# Altium footprint library USB_COM_V2.0.PcbLib: 11 footprints
Each footprint in its own frame and in the unit in brackets; x right, y up, seen from the top. Pads: shape width x height; smd on the part's side, far side on the other; paste and mask are expansions set on the pad; w line width, h text height; cw(c..) or ccw(c..) is an arc to the next point about the centre after c.
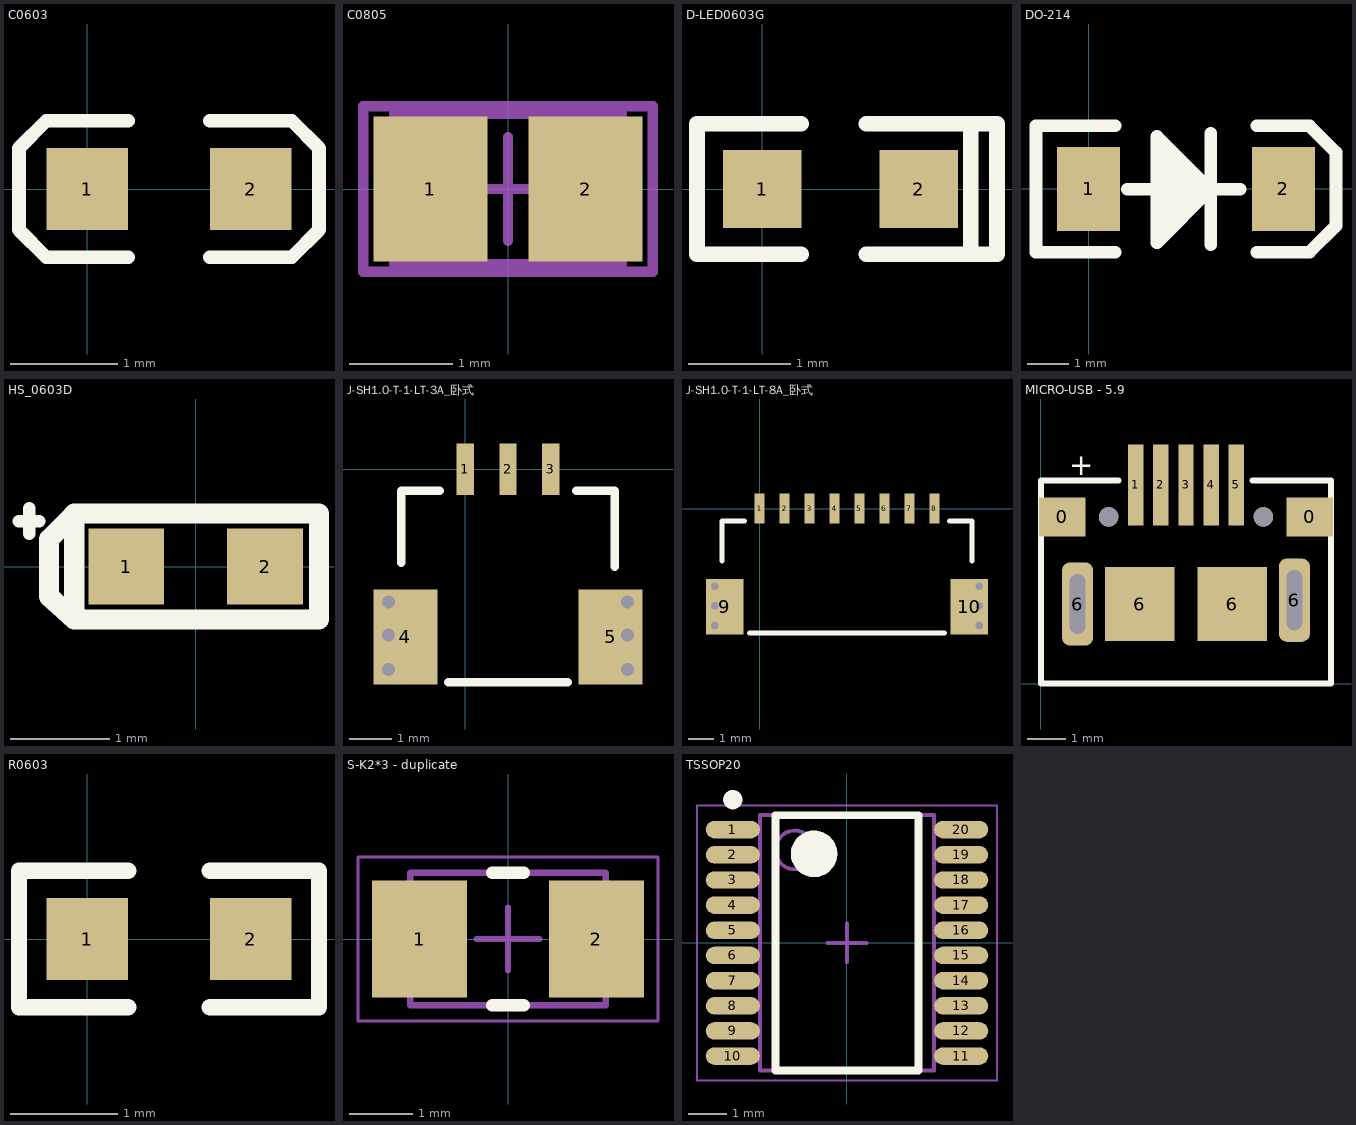
[diagram p0: the footprints below, top view; thin cyan lines are the x and y axes]

## C0603 [mil]
height 12
pads (2):
  rect 30x30 smd: 1(0,0) 2(60,0)
Top Overlay:
  lines w5: 15,-25 -15,-25 -25,-15 -25,15 -15,25 15,25 ; 45,-25 75,-25 85,-15 85,15 75,25 45,25
3D body "C0603.STEP": height 11.89, standoff 0, extent -1.5,-15.5 61.5,16

## C0805 [mm] "Chip Capacitor, Body 2.0x1.3mm, IPC High Density"
height 1.4
pads (2):
  rect 1.1x1.4 smd: 1(-0.75,0) 2(0.75,0)
Mechanical 13:
  lines w0.1: -1.1,-0.725 1.1,-0.725 1.1,0.725 -1.1,0.725 -1.1,-0.725
Mechanical 15:
  lines w0.1: -0.5,0 0.5,0 ; 0,-0.5 0,0.5 ; -1.4,-0.8 1.4,-0.8 1.4,0.8 -1.4,0.8 -1.4,-0.8
3D body: height 1.4, standoff 0, extent -1.1,-0.725 1.1,0.725

## D-LED0603G [mil]
height 39.37
pads (2):
  rect 30x30 smd: 1(0,0) 2(60,0)
Top Overlay:
  lines w6: 15,-25 -25,-25 -25,25 15,25 ; 40,-25 90,-25 90,25 40,25 ; 80,-25 80,25
3D body "LED_0603_GREEN.STEP": height 23.62, standoff 0, extent -1.89,-16.5 61.89,15

## DO-214 [mil]
height 267.72
pads (2):
  rect 60x80 smd: 1(0,0) 2(185,0)
Top Overlay:
  region: 64.92,-25.05 91,-25.05 91,22.87 64.92,22.87
  lines w12: 25,-60 -50,-60 -50,60 25,60 ; 36.92,-0.13 143.92,-0.13 ; 64.92,33.87 100.29,-1.51 66.66,-35.13 ; 115.92,-53.13 115.92,52.87 ; 160,-60 209.92,-60 235,-34.92 235,34.87 209.87,60 160,60 ; 64.92,-51.13 115.92,-0.13 115.92,-1.13 64.92,49.87 64.92,-51.13

## HS_0603D [mil]
height 100
pads (2):
  rect 30x30 smd: 1(-27.5,0) 2(27.5,0)
Top Overlay:
  lines w5: -70,18 -62,18 ; -66,13 -66,23
  lines w8: -49,20 -58.12,10.88 -58.12,-11.87 -48.12,-21 ; -48.12,20 -48.12,-21 ; -48.12,21 48.88,21 48.88,-21 -48.12,-21

## J-SH1.0-T-1-LT-3A_卧式 [mm]
height 1.2
pads (5):
  rect 0.4x1.2 smd: 1(0,0) 2(1,0) 3(2,0)
  rect 1.5x2.22 smd: 4(-1.4,-3.92) 5(3.4,-3.92)
via 3.8,-3.1 diameter 0.508 hole 0.305
via -1.8,-3.1 diameter 0.508 hole 0.305
via -1.8,-4.68 diameter 0.508 hole 0.305
via -1.8,-3.88 diameter 0.508 hole 0.305
via 3.8,-4.68 diameter 0.508 hole 0.305
via 3.8,-3.88 diameter 0.508 hole 0.305
Top Overlay:
  lines w0.2: -1.5,-2.18 -1.5,-0.5 -0.6,-0.5 ; -0.4,-4.98 2.4,-4.98 ; 2.6,-0.5 3.5,-0.5 3.5,-2.28

## J-SH1.0-T-1-LT-8A_卧式 [mm]
height 1.2
pads (10):
  rect 0.4x1.2 smd: 1(0,0) 2(1,0) 3(2,0) 4(3,0) 5(4,0) 6(5,0) 7(6,0) 8(7,0)
  rect 1.5x2.22 smd: 9(-1.4,-3.92) 10(8.4,-3.92)
via 8.8,-3.88 diameter 0.508 hole 0.305
via 8.8,-4.68 diameter 0.508 hole 0.305
via -1.8,-3.88 diameter 0.508 hole 0.305
via -1.8,-4.68 diameter 0.508 hole 0.305
via -1.8,-3.1 diameter 0.508 hole 0.305
via 8.8,-3.1 diameter 0.508 hole 0.305
Top Overlay:
  lines w0.2: -1.5,-2.1 -1.5,-0.5 -0.6,-0.5 ; -0.4,-4.98 7.4,-4.98 ; 7.6,-0.5 8.5,-0.5 8.5,-2.1

## MICRO-USB - 5.9 [mm]
height 1.2
pads (13):
  rect 1.2x1 smd: 0(0.55,4.307) 0(6.95,4.307)
  rect 0.4x2.1 smd: 1(2.45,5.132) 2(3.1,5.132) 3(3.75,5.132) 4(4.4,5.132) 5(5.05,5.132)
  rrect50% 0.8x2.15 hole 0.4 slot 1.55 at 90 deg: 6(0.95,2.057) 6(6.55,2.157)
  rect 1.8x1.9 smd: 6(2.556,2.057) 6(4.943,2.057)
  round 0.5 hole 0.5 unplated: ""(1.75,4.307) ""(5.75,4.307)
Top Overlay:
  lines w0.152: 2.007,5.25 0,5.25 0,0 7.5,0 7.5,5.25 5.469,5.25
  text "+" at 0.737,5.385 h0.55

## R0603 [mil]
height 12
pads (2):
  rect 30x30 smd: 1(0,0) 2(60,0)
Top Overlay:
  lines w6: 15,-25 -25,-25 -25,25 15,25 ; 45,-25 85,-25 85,25 45,25
3D body "R0603.STEP": height 17.72, standoff 0, extent -0.5,-16 62.5,15.5

## S-K2*3 - duplicate [mm] "Precision Wire Wound Inductor, 2-Leads, Body 3.00x2.00mm, IPC Medium Density"
height 0.65
pads (2):
  rect 1.5x1.85 smd: 1(-1.4,0) 2(1.4,0)
Top Overlay:
  lines w0.2: -0.25,-1.05 0.25,-1.05 ; -0.25,1.05 0.25,1.05
Mechanical 13:
  lines w0.1: -1.55,-1.05 -1.55,1.05 1.55,1.05 1.55,-1.05 -1.55,-1.05
Mechanical 15:
  lines w0.05: -2.375,-1.3 -2.375,1.3 2.375,1.3 2.375,-1.3 -2.375,-1.3
  lines w0.1: -0.5,0 0.5,0 ; 0,-0.5 0,0.5
3D body: height 0.65, standoff 0, extent -1.55,-1.05 1.55,1.05

## TSSOP20 [mm] "TSOP, 20-Leads, Body 6.50x4.40mm, Pitch 0.65mm, IPC Medium Density"
height 1.2
pads (20):
  oval 1.4x0.45 smd: 1(-2.95,2.925) 2(-2.95,2.275) 3(-2.95,1.625) 4(-2.95,0.975) 5(-2.95,0.325) 6(-2.95,-0.325) 7(-2.95,-0.975) 8(-2.95,-1.625) 9(-2.95,-2.275) 10(-2.95,-2.925) 11(2.95,-2.925) 12(2.95,-2.275) 13(2.95,-1.625) 14(2.95,-0.975) 15(2.95,-0.325) 16(2.95,0.325) 17(2.95,0.975) 18(2.95,1.625) 19(2.95,2.275) 20(2.95,2.925)
Top Overlay:
  circle w0.6: c-0.85,2.3 r0.3
  circle w0.25: c-2.95,3.7 r0.125
  lines w0.2: -1.85,-3.3 1.85,-3.3 1.85,3.3 -1.85,3.3 -1.85,-3.3
Mechanical 13:
  circle w0.1: c-1.35,2.4 r0.5
  lines w0.1: -2.25,-3.3 2.25,-3.3 2.25,3.3 -2.25,3.3 -2.25,-3.3
Mechanical 15:
  lines w0.05: -3.875,-3.55 3.875,-3.55 3.875,3.55 -3.875,3.55 -3.875,-3.55
  lines w0.1: -0.5,0 0.5,0 ; 0,-0.5 0,0.5
3D body: height 1.2, standoff 0.15, extent -2.25,-3.3 2.25,3.3